# EAGLE library part GP2Y1010AU0F (library parts)
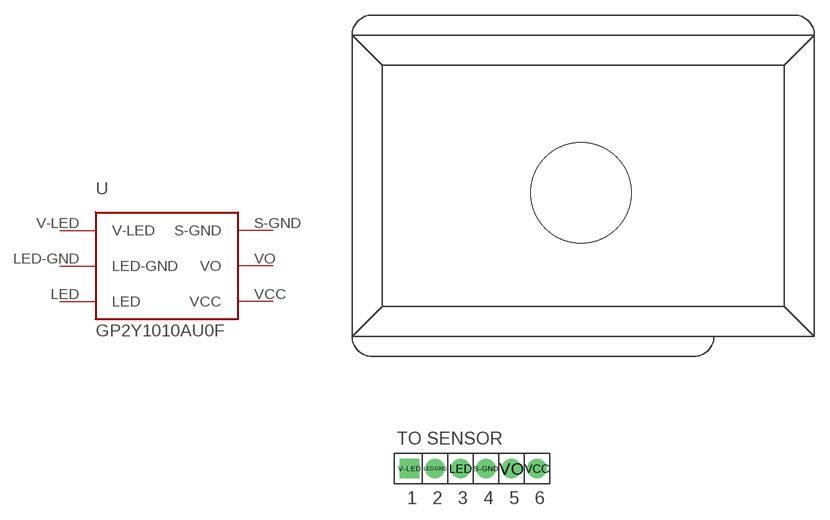
[diagram p0: symbol with the pads of GP2Y1010AU0F; footprint GP2Y1010AU0F]

Designator prefix -

## GP2Y1010AU0F  [GP2Y1010AU0F]
LED  LED  in
LED-GND  LED-GND  pwr
S-GND  S-GND  pwr
V-LED  V-LED  pwr
VCC  VCC  pwr
VO  VO  out

## Footprint GP2Y1010AU0F (pad centres in mm)
drill 1.016 pad 1.93: LED -29.21,-43.18; LED-GND -31.75,-43.18; S-GND -26.67,-43.18; VCC -21.59,-43.18; VO -24.13,-43.18
drill 1.016 pad 1.93 square: V-LED -34.29,-43.18
hole 10 at -17.2,-15.7